# Altium footprint library jumpers_and_circuit_brakers.PcbLib: 23 footprints (part 1 of 2)
Each footprint in its own frame and in the unit in brackets; x right, y up, seen from the top. Pads: shape width x height; smd on the part's side, far side on the other; paste and mask are expansions set on the pad; w line width, h text height; cw(c..) or ccw(c..) is an arc to the next point about the centre after c.
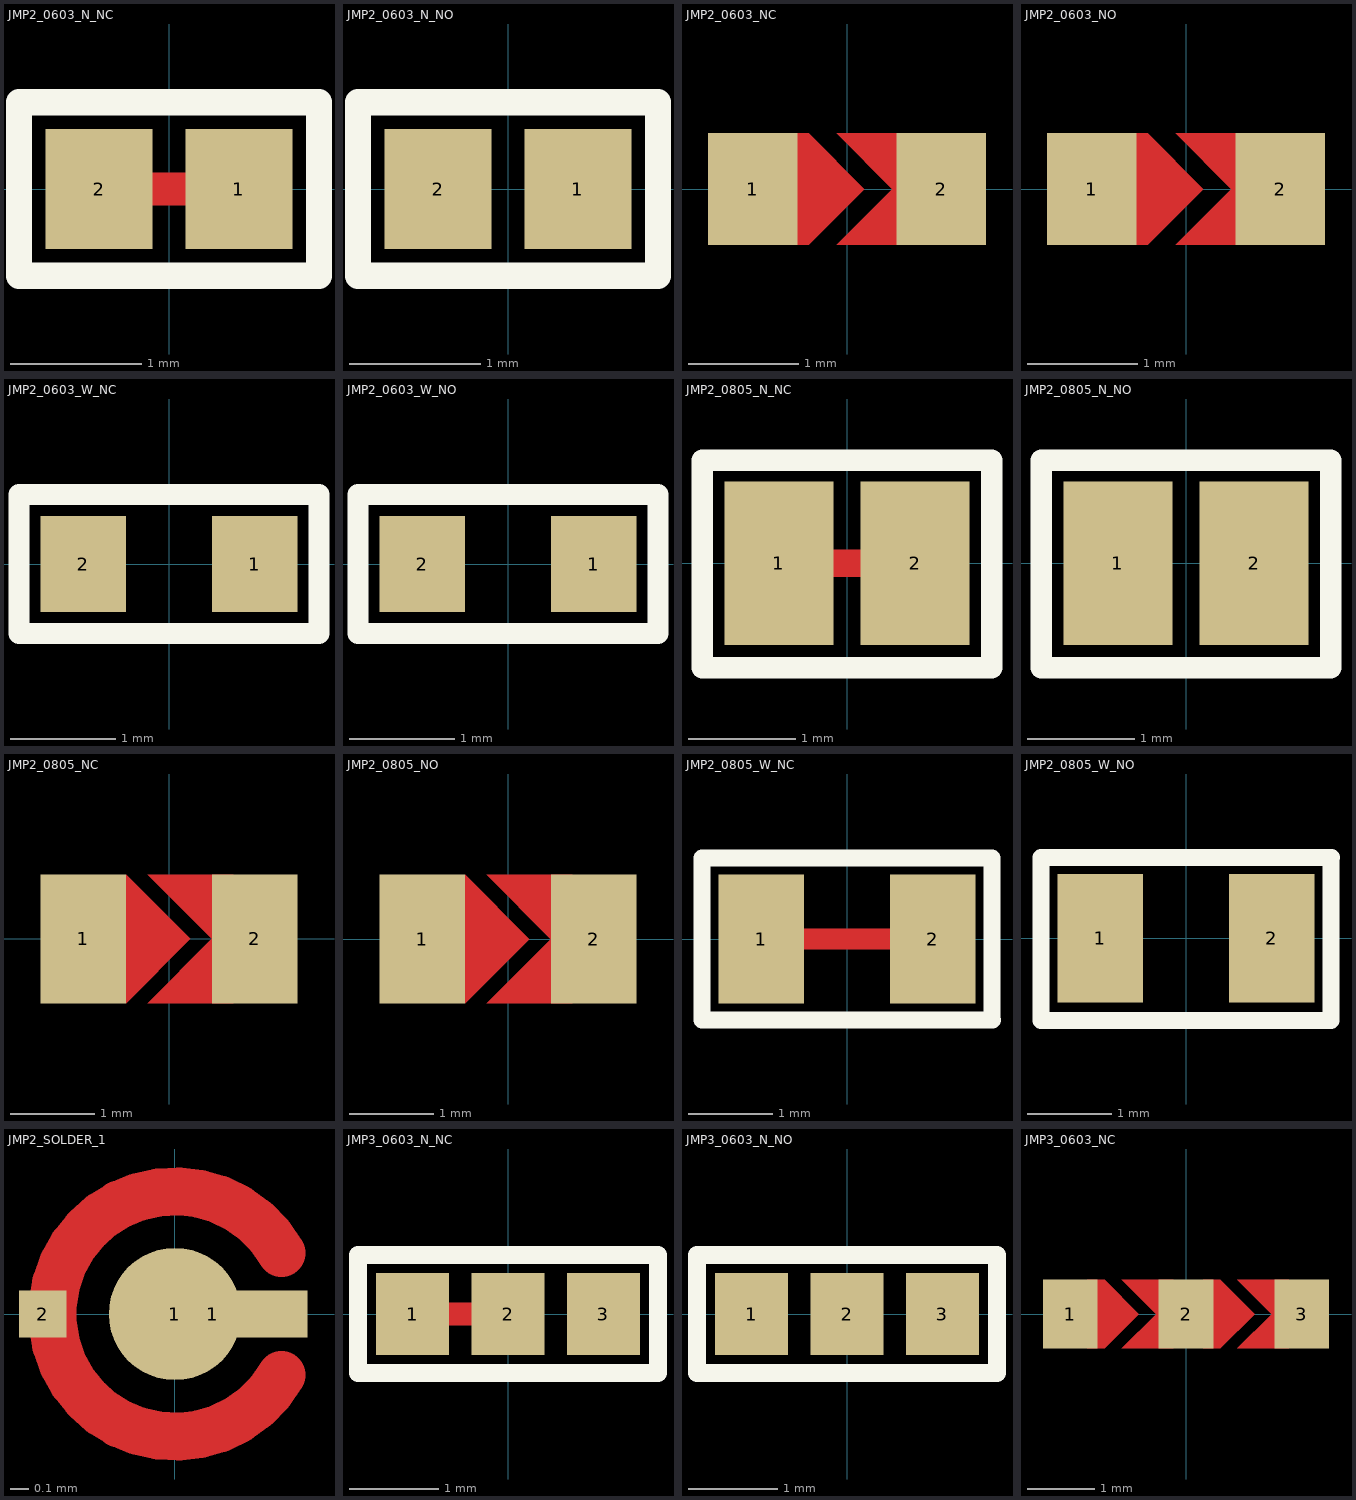
[diagram p0: the footprints below, top view; thin cyan lines are the x and y axes]

## JMP2_0603_N_NC [mil]
pads (2):
  rect 32x36 smd: 1(21,0) 2(-21,0)
Top Layer:
  lines w10: -21,0 21,0
Top Overlay:
  lines w7.87: -45,-26 45,-26 45,26 -45,26 -45,-26

## JMP2_0603_N_NO [mil]
pads (2):
  rect 32x36 smd: 1(21,0) 2(-21,0)
Top Overlay:
  lines w7.87: -45,-26 45,-26 45,26 -45,26 -45,-26

## JMP2_0603_NC [mil]
height 78.74
pads (2):
  rect 32x40 smd: 1(-33.75,0) 2(33.75,0)
Top Layer:
  region: 26.25,0 16.25,0 -3.75,-20 26.25,-20
  region: 26.25,0 16.25,0 -3.75,20 26.25,20
  region: -23.75,-20 -13.75,-20 6.25,0 -13.75,20 -23.75,20
Top Paste:
  region: 26.25,0 16.25,0 -3.75,20 26.25,20
  region: 26.25,0 16.25,0 -3.75,-20 26.25,-20
  region: -23.75,-20 -13.75,-20 6.25,0 -13.75,20 -23.75,20
Top Solder:
  region: 26.25,0 12.25,0 -11.75,24 26.25,24
  region: 26.25,0 12.25,0 -11.75,-24 26.25,-24
  region: -23.75,-24 -13.75,-24 10.25,0 -13.75,24 -23.75,24
3D body "User Library-0603 SMD Resistor.step": height 11.89, standoff 0, extent -31.49,-15.74 31.5,15.76

## JMP2_0603_NO [mil]
height 78.74
pads (2):
  rect 32x40 smd: 1(-33.75,0) 2(33.75,0)
Top Layer:
  region: 26.25,0 16.25,0 -3.75,-20 26.25,-20
  region: 26.25,0 16.25,0 -3.75,20 26.25,20
  region: -23.75,-20 -13.75,-20 6.25,0 -13.75,20 -23.75,20
Top Paste:
  region: 26.25,0 16.25,0 -3.75,20 26.25,20
  region: 26.25,0 16.25,0 -3.75,-20 26.25,-20
  region: -23.75,-20 -13.75,-20 6.25,0 -13.75,20 -23.75,20
Top Solder:
  region: 26.25,0 12.25,0 -11.75,24 26.25,24
  region: 26.25,0 12.25,0 -11.75,-24 26.25,-24
  region: -23.75,-24 -13.75,-24 10.25,0 -13.75,24 -23.75,24

## JMP2_0603_W_NC [mil]
pads (2):
  rect 32x36 smd: 1(32,0) 2(-32,0)
Top Overlay:
  lines w7.87: -56,-26 -56,26 56,26 56,-26 -56,-26
3D body "User Library-0603 SMD Resistor.step": height 11.89, standoff 0, extent -31.49,-15.74 31.5,15.75

## JMP2_0603_W_NO [mil]
pads (2):
  rect 32x36 smd: 1(32,0) 2(-32,0)
Top Overlay:
  lines w7.87: -56,-26 56,-26 56,26 -56,26 -56,-26

## JMP2_0805_N_NC [mil]
height 49.21
pads (2):
  rect 40x60 smd: 1(-25,0) 2(25,0)
Top Layer:
  lines w10: -25,0 25,0
Top Overlay:
  lines w7.87: -53,-38.39 -53,37.8 53,37.8 53,-38.39 -53,-38.39

## JMP2_0805_N_NO [mil]
height 49.21
pads (2):
  rect 40x60 smd: 1(-25,0) 2(25,0)
Top Overlay:
  lines w7.87: -53,-38.39 -53,37.8 53,37.8 53,-38.39 -53,-38.39

## JMP2_0805_NC [mil]
height 78.74
pads (2):
  rect 40x60 smd mask+0: 1(-40,0)
  rect 40x60 smd: 2(40,0)
Top Layer:
  region: -20,-30 10,0 -20,30
  region: 30,0 20,0 -10,30 30,30
  region: 30,0 20,0 -10,-30 30,-30
Top Paste:
  region: -20,-30 10,0 -20,30
  region: 30,0 20,0 -10,-30 30,-30
  region: 30,0 20,0 -10,30 30,30
Top Solder:
  rectangle: -64,-34 -20,34
  region: -20,-34 14,0 -20,34
  region: 30,0 16,0 -18,-34 30,-34
  region: 30,0 16,0 -18,34 30,34
3D body "User Library-0805 SMD Resistor.step": height 30.79, standoff 0, extent -39.36,-24.6 39.37,24.61

## JMP2_0805_NO [mil]
height 78.74
pads (2):
  rect 40x60 smd mask+0: 1(-40,0)
  rect 40x60 smd: 2(40,0)
Top Layer:
  region: 30,0 20,0 -10,-30 30,-30
  region: 30,0 20,0 -10,30 30,30
  region: -20,-30 10,0 -20,30
Top Paste:
  region: 30,0 20,0 -10,30 30,30
  region: 30,0 20,0 -10,-30 30,-30
  region: -20,-30 10,0 -20,30
Top Solder:
  rectangle: -64,-34 -20,34
  region: 30,0 16,0 -18,34 30,34
  region: 30,0 16,0 -18,-34 30,-34
  region: -20,-34 14,0 -20,34

## JMP2_0805_W_NC [mil]
height 49.21
pads (2):
  rect 40x60 smd: 1(-40,0) 2(40,0)
Top Layer:
  lines w10: -40,0 40,0
Top Overlay:
  lines w7.87: 66.93,37.8 -67.72,37.8 -67.72,-37.8 67.91,-37.8 ; 67.72,-37.8 67.72,37.8

## JMP2_0805_W_NO [mil]
height 49.21
pads (2):
  rect 40x60 smd: 1(-40,0) 2(40,0)
Top Overlay:
  lines w7.87: 67.72,37.8 67.72,-38.39 -67.72,-38.39 -67.72,37.8 67.91,37.8

## JMP2_SOLDER_1 [mm]
pads (3):
  round 0.7 smd: 1(0,0)
  rect 1x0.25 smd: 1(0.2,0)
  rect 0.25x0.25 smd mask+0: 2(-0.7,0)
Top Layer:
  lines w0.254: 0.563,-0.324 cw(c0,0) 0.563,0.324
Top Solder:
  circle w0.254: c0,0 r0.762

## JMP3_0603_N_NC [mil]
pads (3):
  rect 32x36 smd: 1(-42,0) 2(0,0) 3(42,0)
Top Layer:
  lines w10: -42,0 0,0
Top Overlay:
  lines w7.87: -66,-26 66,-26 66,26 -66,26 -66,-26

## JMP3_0603_N_NO [mil]
pads (3):
  rect 32x36 smd: 1(-42,0) 2(0,0) 3(42,0)
Top Overlay:
  lines w7.87: -66,-26 -66,26 66,26 66,-26 -66,-26

## JMP3_0603_NC [mil]
height 78.74
pads (3):
  rect 32x40 smd: 1(-67.5,0) 2(0,0) 3(67.5,0)
Top Layer:
  region: 60,0 50,0 30,20 60,20
  region: 60,0 50,0 30,-20 60,-20
  region: 10,-20 20,-20 40,0 20,20 10,20
  region: -7.5,0 -17.5,0 -37.5,-20 -7.5,-20
  region: -7.5,0 -17.5,0 -37.5,20 -7.5,20
  region: -57.5,-20 -47.5,-20 -27.5,0 -47.5,20 -57.5,20
Top Paste:
  region: -7.5,0 -17.5,0 -37.5,20 -7.5,20
  region: -7.5,0 -17.5,0 -37.5,-20 -7.5,-20
  region: -57.5,-20 -47.5,-20 -27.5,0 -47.5,20 -57.5,20
Top Solder:
  region: 60,0 46,0 22,-24 60,-24
  region: 60,0 46,0 22,24 60,24
  region: 10,-24 20,-24 44,0 20,24 10,24
  region: -7.5,0 -21.5,0 -45.5,24 -7.5,24
  region: -7.5,0 -21.5,0 -45.5,-24 -7.5,-24
  region: -57.5,-24 -47.5,-24 -23.5,0 -47.5,24 -57.5,24
3D body "User Library-0603 SMD Resistor.step": height 11.89, standoff 0, extent -65.24,-15.74 -2.25,15.76